# Altium footprint library STK-PL50A.PcbLib: 1 footprints
Each footprint in its own frame and in the unit in brackets; x right, y up, seen from the top. Pads: shape width x height; smd on the part's side, far side on the other; paste and mask are expansions set on the pad; w line width, h text height; cw(c..) or ccw(c..) is an arc to the next point about the centre after c.
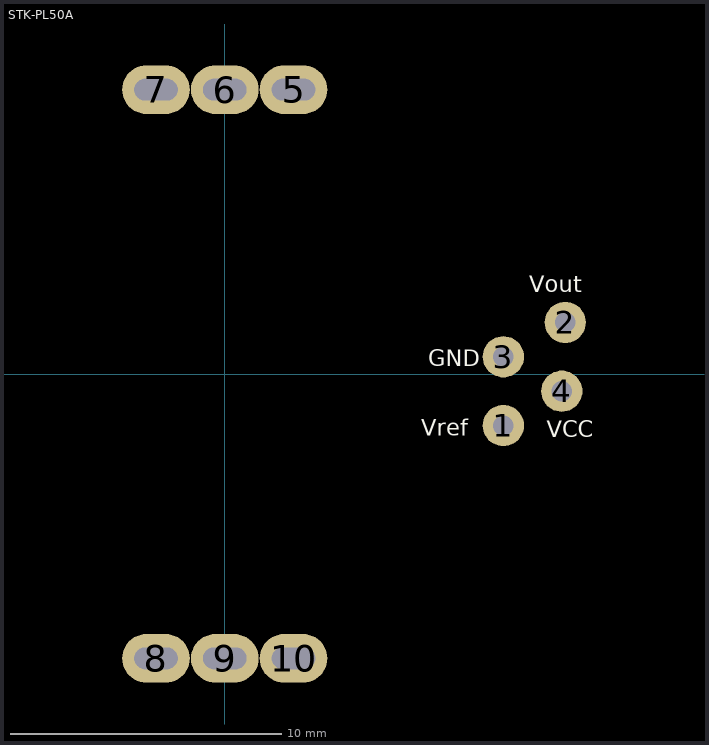
[diagram p0: the footprint, top view; thin cyan lines are the x and y axes]

## STK-PL50A [mm] "STK-PL50A"
pads (10):
  round 1.524 hole 0.762: 1(10.287,-1.905) 2(12.573,1.905) 3(10.287,0.635) 4(12.446,-0.635)
  oval 2.5x1.8 hole 0.8 slot 1.6 at 0 deg: 5(2.54,10.5) 6(0,10.5) 7(-2.54,10.5) 8(-2.54,-10.5) 9(0,-10.5) 10(2.54,-10.5)
Top Overlay:
  text "Vout" at 11.251,3.021 h0.6
  text "Vref" at 7.263,-2.288 h0.6
  text "GND" at 7.517,0.278 h0.6
  text "VCC" at 11.886,-2.338 h0.6
3D body "STK-PL.STEP": height 14.8, standoff -1.5, extent -7.065,-10.775 14.535,10.825